# EAGLE library part NOKIA_5110 (library sh4dov lib)
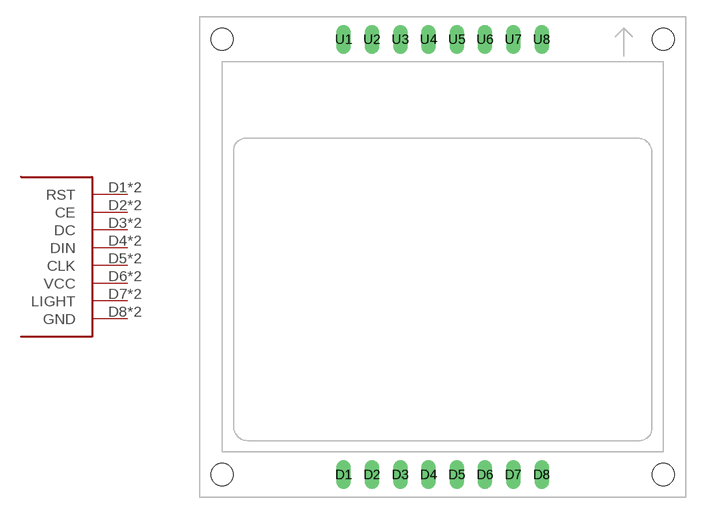
[diagram p2: symbol with the pads of NOKIA_5110; footprint NOKIA_5110]

Designator prefix -

## NOKIA_5110  [NOKIA_5110]
D1  RST
D2  CE
D3  DC
D4  DIN
D5  CLK
D6  VCC
D7  LIGHT
D8  GND
U1  RST
U2  CE
U3  DC
U4  DIN
U5  CLK
U6  VCC
U7  LIGHT
U8  GND

## Footprint NOKIA_5110 (pad centres in mm)
drill 0.8 long: D1 -8.89,-17.78; D2 -6.35,-17.78; D3 -3.81,-17.78; D4 -1.27,-17.78; D5 1.27,-17.78; D6 3.81,-17.78; D7 6.35,-17.78; D8 8.89,-17.78; U1 -8.89,21.336; U2 -6.35,21.336; U3 -3.81,21.336; U4 -1.27,21.336; U5 1.27,21.336; U6 3.81,21.336; U7 6.35,21.336; U8 8.89,21.336
hole 2 at -19.812,-17.78
hole 2 at 19.812,-17.78
hole 2 at 19.812,21.336
hole 2 at -19.812,21.336